# Altium schematic symbol library XKB7070.SchLib: 1 symbol
Pins are listed as number, name and electrical type; pins without a type are passive.

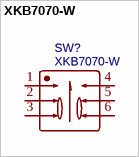
[diagram p0: symbol XKB7070-W]

## XKB7070-W
designator SW?
双刀双掷自锁开关; Manufacturer: XKB Connectivity(中国星坤); Contributor: LCSC; Supplier: LCSC; Supplier Part: C318864; Manufacturer Part: XKB7070-W; JLCPCB Part Class: Extended Part; spicePre: S; spiceSymbolName: XKB7070-W
footprint SW-TH_6P-L7.2-W7.2-P2.00-LS5.0
pins: 1, 2, 3, 4, 5, 6